# Altium schematic symbol library Switch-SW.SchLib: 4 symbols
Pins are listed as number, name and electrical type; pins without a type are passive.

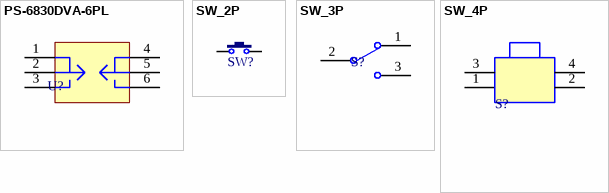
[diagram p0: symbols PS-6830DVA-6PL to SW_4P]

## PS-6830DVA-6PL
designator U?
pins: 1, 2, 3, 4, 5, 6

## SW_2P
designator SW?
pins: 1, 2

## SW_3P
designator S?
pins: 1, 2, 3

## SW_4P
designator S?
pins: 1, 2, 3 1, 4 2